# EAGLE library part ESP8266_WI073 (library esp8266_wio73_breakout)
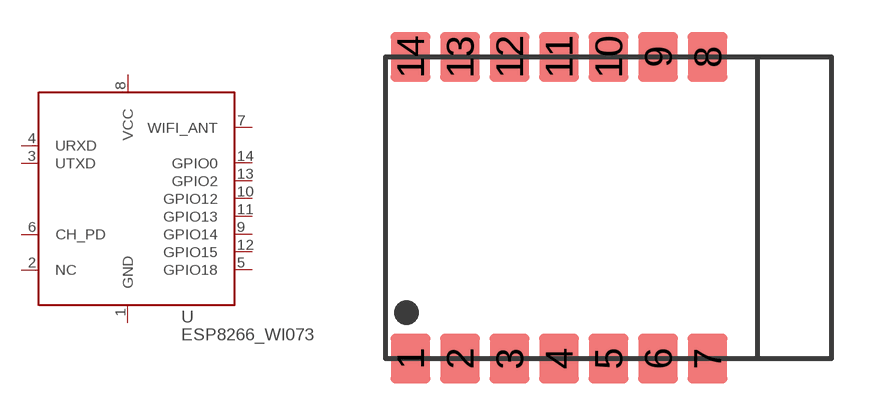
[diagram p1: symbol with the pads of ESP8266_WI073; footprint ESP8266_WI073]

Designator prefix -

## ESP8266_WI073  [ESP8266_WI073]
1  GND  sup
2  NC  nc
3  UTXD
4  URXD  in
5  GPIO18
6  CH_PD  in
7  WIFI_ANT
8  VCC  sup
9  GPIO14
10  GPIO12
11  GPIO13
12  GPIO15
13  GPIO2
14  GPIO0

## Footprint ESP8266_WI073 (pad centres in mm)
smd 1.6 x 2: 1 0,0; 2 2,0; 3 4,0; 4 6,0; 5 8,0; 6 10,0; 7 12,0; 8 12,12.2; 9 10,12.2; 10 8,12.2; 11 6,12.2; 12 4,12.2; 13 2,12.2; 14 0,12.2